# EAGLE library part LTC7001 (library LTC7001)
Fast 150V High Side NMOS Static Switch Driver Source: https://www.analog.com/en/products/ltc7001.html
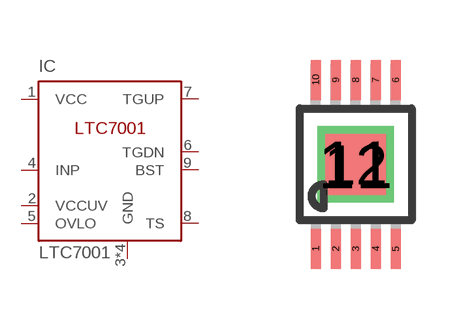
[diagram p0: symbol with the pads of MSOP10; footprint MSOP10]

Designator prefix IC

## LTC7001 (MPN: AD7992BRMZ-0; OC_FARNELL: 1078311; OC_NEWARK: 31M4422)  [MSOP10]
1  VCC  pwr
2  VCCUV  in
3  GND  pwr
4  INP  in
5  OVLO  in
6  TGDN  out
7  TGUP  in
8  TS
9  BST  in
10  GND  pwr
11  GND  pwr
12  GND  pwr

## Footprint MSOP10 (pad centres in mm)
10-Lead Mini Small Outline Package [MSOP] (RM-10) Source: http://www.analog.com/UploadedFiles/Data_Sheets/35641221898805SSM2167_b.pdf COMPLIANT TO JEDEC STANDARDS MO-187BA
smd 0.25 x 1: 1 -1,-2.113; 2 -0.5,-2.113; 3 0,-2.113; 4 0.5,-2.113; 5 1,-2.113; 6 1,2.113; 7 0.5,2.113; 8 0,2.113; 9 -0.5,2.113; 10 -1,2.113
drill 1.27 square: 11 0,0
smd 1.524 x 1.524: 12 0,0